# Altium footprint library mach_canh_bao_lu_2.PcbLib: 41 footprints (part 2 of 3)
Each footprint in its own frame and in the unit in brackets; x right, y up, seen from the top. Pads: shape width x height; smd on the part's side, far side on the other; paste and mask are expansions set on the pad; w line width, h text height; cw(c..) or ccw(c..) is an arc to the next point about the centre after c.
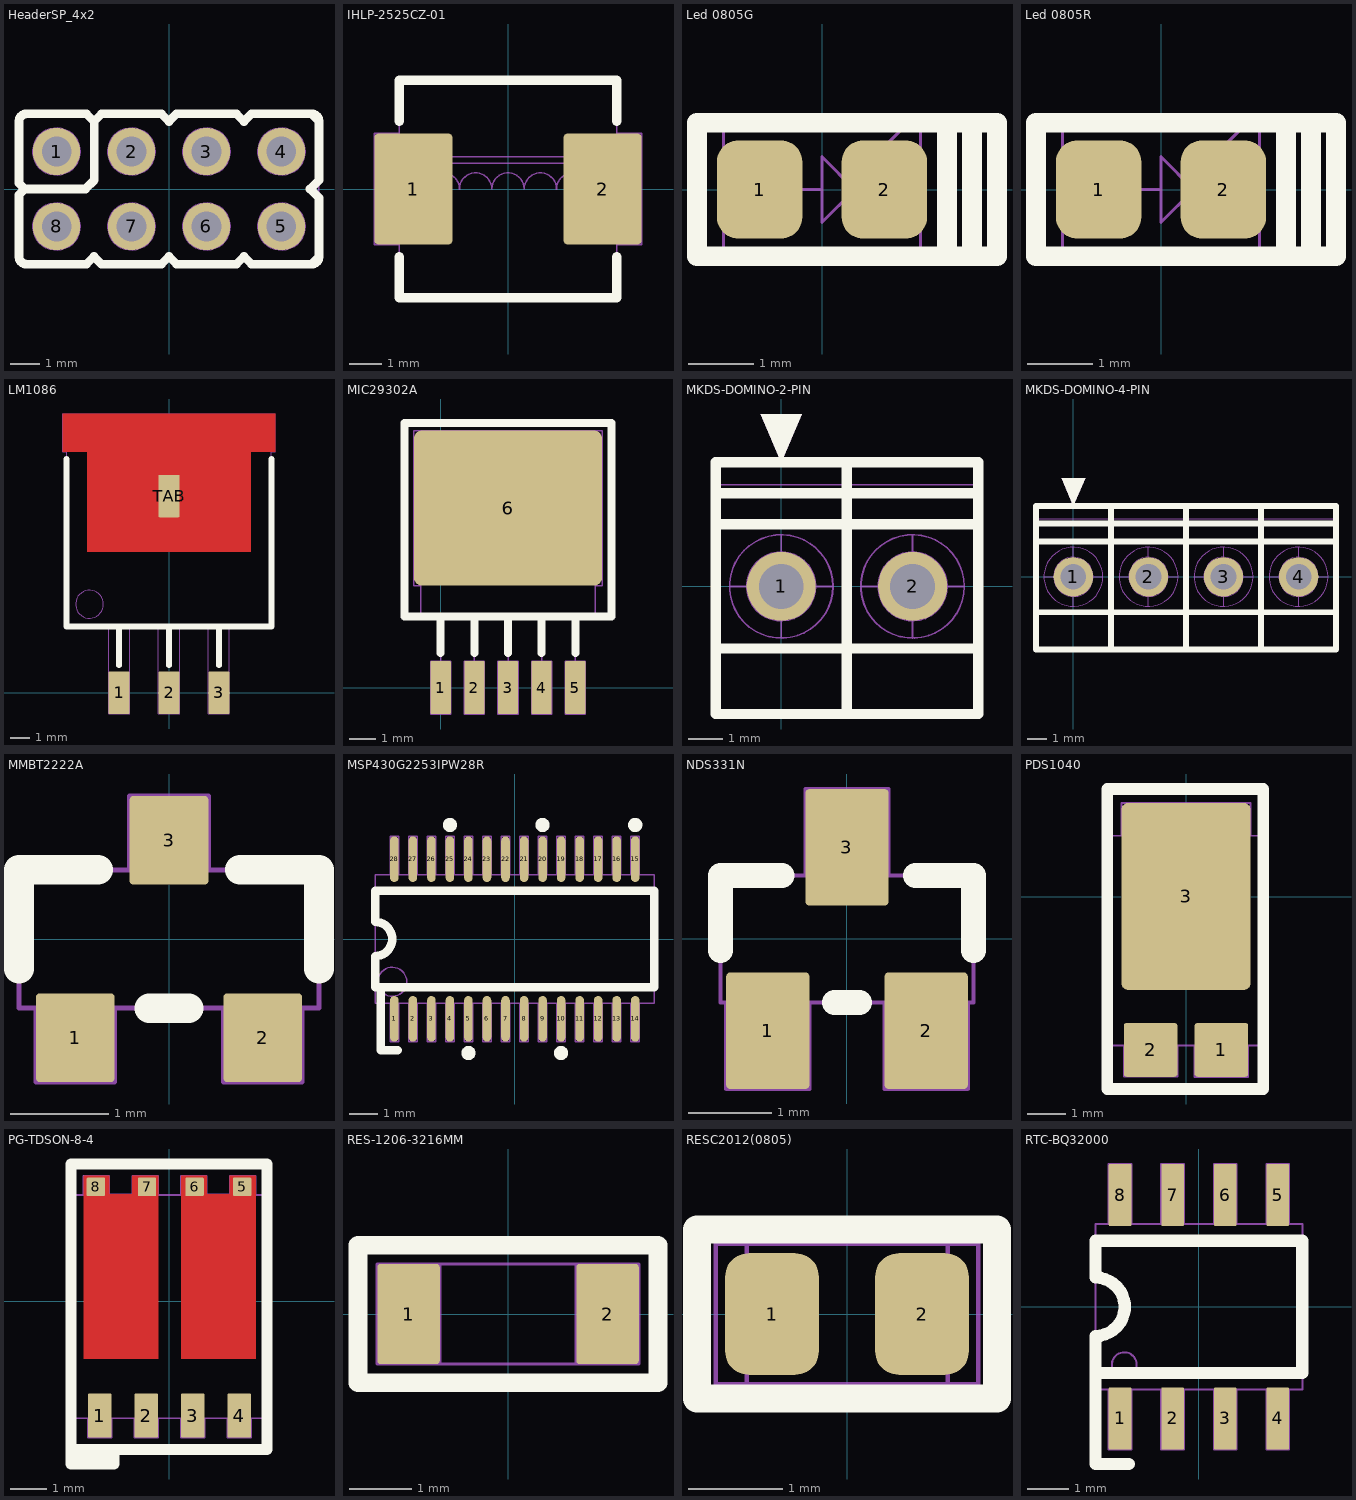
[diagram p1: the footprints below, top view; thin cyan lines are the x and y axes]

## HeaderSP_4x2 [mm] "Connector DIP FeMale, 2x4Pin_2.54mm"
height 5
pads (8):
  round 1.6 hole 1 mask+0.1: 1(-3.81,1.27) 2(-1.27,1.27) 3(1.27,1.27) 4(3.81,1.27) 5(3.81,-1.27) 6(1.27,-1.27) 7(-1.27,-1.27) 8(-3.81,-1.27)
Top Overlay:
  lines w0.3: -2.794,-2.55 -2.794,-2.54 ; -2.794,2.54 -2.54,2.286 -2.286,2.54 ; -2.794,2.55 -4.84,2.55 ccw(c-4.82,2.29) -5.08,2.27 -5.08,0.2 -4.88,0 ; -2.53,2.276 -2.53,0.3 -2.83,0 -4.88,0 ; -2.286,2.55 -0.254,2.55 ; 4.84,-2.55 ccw(c4.82,-2.29) 5.08,-2.27 ; 4.84,2.55 cw(c4.82,2.29) 5.08,2.27 5.08,0.3 4.78,0 5.08,-0.3 5.08,-2.2 ; 5.08,-2.296 5.08,-2.286 4.826,-2.54 4.826,-2.55 2.794,-2.55 2.794,-2.54 2.54,-2.286 2.286,-2.54 2.286,-2.55 0.254,-2.55 ; 5.08,2.286 4.826,2.54 4.826,2.55 2.794,2.55 2.54,2.296 ; -4.88,0 -5.08,-0.2 -5.08,-2.27 ccw(c-4.82,-2.29) -4.84,-2.55 -2.804,-2.55 -2.794,-2.54 ; -2.794,-2.54 -2.54,-2.286 -2.54,-2.296 -2.286,-2.55 -0.254,-2.55 ; -0.254,-2.55 -0.254,-2.54 ; -0.254,-2.55 -0.254,-2.54 ; -0.254,-2.54 0,-2.286 0.254,-2.54 ; -0.254,2.54 -0.254,2.55 ; -0.254,2.54 0,2.286 ; -0.254,2.54 0,2.286 ; -0.254,2.54 -0.254,2.55 ; 0,2.286 0,2.296 0.254,2.55 2.286,2.55 2.286,2.54 2.54,2.286 ; 0.254,-2.55 0.254,-2.54 ; 0.254,-2.55 0.254,-2.54 ; 2.54,2.286 2.54,2.296 ; 2.54,2.286 2.54,2.296
Mechanical 1:
  circle w0.05: c3.81,-1.27 r0.8
  circle w0.05: c3.81,1.27 r0.8
  circle w0.05: c1.27,-1.27 r0.8
  circle w0.05: c1.27,1.27 r0.8
  circle w0.05: c-1.27,-1.27 r0.8
  circle w0.05: c-1.27,1.27 r0.8
  circle w0.05: c-3.81,1.27 r0.8
  circle w0.05: c-1.27,1.27 r0.8
  circle w0.05: c-1.27,-1.27 r0.8
  circle w0.05: c-3.81,-1.27 r0.8
  lines w0.05: -2.794,-2.55 -2.794,-2.54 ; -2.794,2.54 -2.54,2.286 ; -2.794,2.55 -4.84,2.55 ccw(c-4.82,2.29) -5.08,2.27 -5.08,-2.27 ccw(c-4.82,-2.29) -4.84,-2.55 -2.804,-2.55 -2.794,-2.54 ; 0.254,2.54 0,2.286 ; 0.254,2.55 2.286,2.55 2.286,2.54 2.54,2.286 2.794,2.54 ; 2.794,2.55 4.826,2.55 4.826,2.54 ; 4.826,-2.54 4.826,-2.55 2.794,-2.55 2.54,-2.296 2.54,-2.286 2.286,-2.54 2.286,-2.55 0.254,-2.55 0,-2.296 0,-2.286 ; 4.84,-2.55 ccw(c4.82,-2.29) 5.08,-2.27 5.08,2.27 ccw(c4.82,2.29) 4.84,2.55 ; 5.08,-2.296 5.08,-2.286 ; -2.794,-2.54 -2.54,-2.286 ; -2.54,-2.296 -2.54,-2.286 ; -2.54,-2.296 -2.286,-2.55 ; -2.54,-2.296 -2.286,-2.55 ; -2.54,-2.296 -2.54,-2.286 ; -2.54,2.286 -2.286,2.54 -2.54,2.286 ; -2.286,-2.55 -0.254,-2.55 ; -2.286,-2.55 -0.254,-2.55 ; -0.254,-2.55 -0.254,-2.54 ; -0.254,-2.55 -0.254,-2.54 ; -0.254,-2.54 0,-2.286 ; -0.254,-2.54 0,-2.286 ; -0.254,2.54 0,2.286 ; -0.254,2.54 -0.254,2.55 ; -0.254,2.54 -0.254,2.55 ; -0.254,2.54 0,2.286 ; -0.254,2.55 -2.286,2.55 -0.254,2.55
  text "5" at 3.57,-1.75 h1
  text "4" at 3.47,0.8 h1
  text "8" at -4.08,-1.75 h1
  text "1" at -3.98,0.87 h1
  text ".Designator" at 0,0 h0.4
3D body "12538.stp": height 8.8, standoff -3, extent -5.08,-2.5 5.08,2.5

## IHLP-2525CZ-01 [mil] "Low-Profile, High-Current IHLP® Inductor"
height 118.11
pads (2):
  rrect10% 95x135 smd mask+3.94: 1(-115,0) 2(115,0)
Top Overlay:
  lines w11.81: -132.36,-82.68 -132.36,-132.36 132.36,-132.36 132.36,-82.68 ; -132.36,82.68 -132.36,132.36 132.36,132.36 132.36,82.68
Mechanical 1:
  lines w1.97: -132.36,-118.97 -132.36,118.75 ; -132.36,116 cw(c-117.13,117.01) -118.88,132.17 ; -132.17,-118.88 ccw(c-117.01,-117.13) -116,-132.36 ; -118.75,132.36 116,132.36 cw(c117.01,117.13) 132.17,118.88 ; -115.97,-132.36 118.97,-132.36 ; -98.43,0 cw(c-78.74,0) -59.05,0 cw(c-39.37,0) -19.69,0 cw(c0,0) 19.69,0 cw(c39.37,0) 59.06,0 cw(c78.74,0) 98.43,0 ; -98.43,31.5 98.43,31.5 ; -98.43,39.37 98.43,39.37 ; 118.88,-132.17 ccw(c117.13,-117.01) 132.36,-116 ; 132.36,-115.97 132.36,118.88 ; 132.68,-67.5 162.5,-67.5 162.5,67.5 132.68,67.5 ; -162.5,-67.5 -132.86,-67.5 ; -162.5,-67.5 -162.5,67.5 ; -162.5,-67.5 -162.5,67.5 ; -162.5,-67.5 -132.86,-67.5 ; -162.5,67.5 -132.86,67.5 ; -162.5,67.5 -132.86,67.5 ; -132.86,-67.5 -132.86,67.5
  text ".Designator" at 0,0 h15.75
3D body "User Library-IHLP-2525CZ.step": height 125.98, standoff 7.87, extent -135.04,-127.36 135.04,127.37

## Led 0805G [mm] "Chip LED; Green; Body 2.0 x 1.3 mm (LxW typ)"
height 1.1
pads (2):
  rrect50% 1.3x1.5 smd: 1(-0.95,0) 2(0.95,0)
Top Overlay:
  lines w0.3: 1.905,-1.016 1.905,1.016 ; 2.286,-1.016 2.286,1.016 ; -1.905,-1.016 -1.905,1.016 2.667,1.016 2.667,-1.016 -1.905,-1.016
Mechanical 1:
  lines w0.05: -1.5,-1 -1.5,1.032 ; -0.5,0 0,0 ; 0.5,-0.5 0.5,0.5 ; 0.6,0.5 0.8,0.7 0.8,0.5 1.2,0.9 ; 0.75,0.2 0.95,0.4 0.95,0.2 1.35,0.6 ; 1,0 0.5,0 ; 1.5,-1 1.5,1.032 ; 0.5,0 0,0.5 0,-0.5 0.5,0 ; -1.905,-1 -1.905,1.032 1.905,1.032 1.905,-1 -1.905,-1
  text ".Designator" at -1.5,1.032 h0.4
3D body "User Library-User Library-led_0805 GRE.step": height 1.1, standoff 0, extent -1.035,-0.625 0.985,0.625

## Led 0805R [mm] "Chip LED; RED ; Body 2.0 x 1.3 mm (LxW typ)"
height 1.1
pads (2):
  rrect50% 1.3x1.5 smd: 1(-0.95,0) 2(0.95,0)
Top Overlay:
  lines w0.3: 1.905,-1.016 1.905,1.016 ; 2.286,-1.016 2.286,1.016 ; -1.905,-1.016 2.667,-1.016 2.667,1.016 -1.905,1.016 -1.905,-1.016
Mechanical 1:
  lines w0.05: -1.5,-1 -1.5,1.032 ; -0.5,0 0,0 ; 0.5,-0.5 0.5,0.5 ; 0.6,0.5 0.8,0.7 0.8,0.5 1.2,0.9 ; 0.75,0.2 0.95,0.4 0.95,0.2 1.35,0.6 ; 1,0 0.5,0 ; 1.5,-1 1.5,1.032 ; 0.5,0 0,0.5 0,-0.5 0.5,0 ; -1.905,-1 -1.905,1.032 1.905,1.032 1.905,-1 -1.905,-1
  text ".Designator" at -1.5,1.032 h0.4
3D body "User Library-User Library-led_0805 R.step": height 1.1, standoff 0, extent -1.01,-0.625 1.01,0.625

## LM1086 [mm] "TO-263 1.5A Low Dropout Positive Regulators"
height 4.64
pads (4):
  rrect10% 1.07x2.16 smd mask+0.1: 1(-2.54,0) 2(0,0) 3(2.54,0)
  rrect10% 1.07x2.16 smd mask+0: TAB(0,10)
Top Layer:
  region: -5.4,14.17 5.4,14.17 5.4,12.26 4.165,12.26 4.165,7.18 -4.165,7.18 -4.165,12.26 -5.4,12.26
Top Overlay:
  lines w0.3: -5.205,11.875 -5.205,3.37 5.205,3.37 5.205,11.875 ; -2.54,1.4 -2.54,3.37 ; 0,1.4 0,3.37 ; 2.54,1.4 2.54,3.37
Top Paste:
  region: -5.4,14.17 5.4,14.17 5.4,12.26 4.165,12.26 4.165,7.18 -4.165,7.18 -4.165,12.26 -5.4,12.26
Mechanical 1:
  circle w0.05: c-4.04,4.5 r0.707
  lines w0.05: -5.19,12.26 -5.4,12.26 -5.4,14.17 5.4,14.17 5.4,12.26 5.205,12.26 ; -5.205,3.37 -5.205,13.53 5.205,13.53 5.205,3.37 -5.205,3.37 ; -3.075,-1.08 -2.005,-1.08 -2.005,3.37 -3.075,3.37 -3.075,-1.08 ; -0.535,-1.08 0.535,-1.08 0.535,3.37 -0.535,3.37 -0.535,-1.08 ; 2.005,-1.08 3.075,-1.08 3.075,3.37 2.005,3.37 2.005,-1.08
  text "OUT" at -1.5,9.7 h1
  text "IN" at 3,3.8 h1
  text "OUT" at 0.5,3.8 h1
  text "GND" at -2.1,3.8 h1
  text ".Designator" at -0.3,8.1 h0.4
3D body "SW3dPS-TO263-3S.STEP": height 4.78, standoff -0.02, extent -5,-1.152 5,14.518

## MIC29302A [mm] "MIC29302AWD TO-252-D"
height 2.387
pads (6):
  rrect10% 0.76x2 smd mask+0.1: 1(0,0) 2(1.27,0) 3(2.54,0) 4(3.81,0) 5(5.08,0)
  rrect10% 7.1x5.85 smd mask+0.1: 6(2.54,6.775)
Top Overlay:
  lines w0.3: 0,1.3 0,2.6 ; 1.27,1.3 1.27,2.6 ; 2.54,1.3 2.54,2.6 ; 3.81,1.3 3.81,2.6 ; 5.08,1.3 5.08,2.6 ; -1.36,2.687 6.44,2.687 6.44,9.987 -1.36,9.987 -1.36,2.687
Mechanical 1:
  lines w0.05: -0.762,3.85 -1.01,3.85 -1.01,9.7 6.09,9.7 6.09,3.85 5.842,3.85 ; 0,1 0,2.688 ; 1.27,1 1.27,2.688 ; 2.54,1 2.54,2.688 ; 3.81,1 3.81,2.688 ; 5.08,1 5.08,2.688 ; -0.762,2.688 5.842,2.688 5.842,8.887 -0.762,8.887 -0.762,2.688 ; -0.38,-1 0.38,-1 0.38,1 -0.38,1 -0.38,-1 ; 0.89,-1 0.89,1 1.65,1 1.65,-1 0.89,-1 ; 2.16,-1 2.16,1 2.92,1 2.92,-1 2.16,-1 ; 3.43,-1 3.43,1 4.19,1 4.19,-1 3.43,-1 ; 4.7,-1 4.7,1 5.46,1 5.46,-1 4.7,-1
  text "EN" at 0.2,-0.4 h1
  text "TAB" at 1.9,6.2 h1
  text "IN" at 1.5,-0.4 h1
  text "GND" at 2.7,-0.5 h1
  text "OUT" at 4,-0.5 h1
  text "ADJ" at 5.2,-0.5 h1
  text ".Designator" at 2.4,5.1 h0.4
3D body "User Library-DPAK-5-1.step": height 2.4, standoff -0.01, extent -0.683,-1.087 6.017,9.779

## MKDS-DOMINO-2-PIN [mm] "DOMINO 2 PIN, PIN TO PIN 3.81MM"
height 8.5
pads (2):
  round 2 hole 1.3 mask+0.1: 1(0,0) 2(3.81,0)
Top Overlay:
  region: 0,3.6 0.6,5 -0.6,5
  lines w0.3: -1.9,-1.8 5.715,-1.8 ; -1.9,1.8 5.715,1.8 ; -1.9,2.7 5.715,2.7 ; 1.905,-3.7 1.905,3.6 ; -1.9,-3.7 -1.9,3.6 5.715,3.6 5.715,-3.7 -1.9,-3.7
Mechanical 1:
  circle w0.05: c3.81,0 r1.5
  circle w0.05: c0,0 r1.5
  circle w0.05: c3.81,0 r1
  circle w0.05: c0,0 r1
  region: 0,3.6 0.6,5 -0.6,5
  lines w0.05: -1.9,-1.8 5.715,-1.8 ; -1.9,1.8 5.715,1.8 ; -1.9,2.95 5.715,2.95 ; -1.5,0 -1,0 ; 0,-1.5 0,-1 ; 0,1 0,1.5 ; 1,0 1.5,0 ; 1.905,-3.7 1.905,3.6 ; 2.31,0 2.81,0 ; 3.81,-1.5 3.81,-1 ; 3.81,1 3.81,1.5 ; 4.81,0 5.31,0 ; -1.9,-3.7 -1.9,3.6 5.715,3.6 5.715,-3.7 -1.9,-3.7
  text "2" at 3.7,-0.4 h1
  text "1" at -0.085,-0.4 h1
  text ".Designator" at 1.905,0 h0.4
3D body "14005.stp": height 8.5, standoff -3.5, extent -1.905,-3.7 5.715,3.6

## MKDS-DOMINO-4-PIN [mm] "DOMINO 4 PIN, PIN TO PIN 3.81MM"
height 8.5
pads (4):
  round 2 hole 1.3 mask+0.1: 1(0,0) 2(3.81,0) 3(7.62,0) 4(11.43,0)
Top Overlay:
  region: 0,3.6 0.6,5 -0.6,5
  lines w0.3: -1.9,-1.8 13.33,-1.8 ; -1.9,1.8 13.33,1.8 ; -1.9,2.7 13.33,2.7 ; 1.905,-3.7 1.905,3.6 ; 5.715,-3.7 5.715,3.6 ; 9.525,-3.7 9.525,3.6 ; -1.9,-3.7 13.33,-3.7 13.33,3.6 -1.9,3.6 -1.9,-3.7
Mechanical 1:
  circle w0.05: c0,0 r1
  circle w0.05: c3.81,0 r1
  circle w0.05: c7.62,0 r1
  circle w0.05: c11.43,0 r1
  circle w0.05: c0,0 r1.5
  circle w0.05: c3.81,0 r1.5
  circle w0.05: c7.62,0 r1.5
  circle w0.05: c11.43,0 r1.5
  region: 0,3.6 0.6,5 -0.6,5
  lines w0.05: -1.9,-1.8 13.33,-1.8 ; -1.9,1.8 13.33,1.8 ; -1.9,2.95 13.33,2.95 ; -1.5,0 -1,0 ; 0,-1.5 0,-1 ; 0,1 0,1.5 ; 1,0 1.5,0 ; 1.905,-3.7 1.905,3.6 ; 2.31,0 2.81,0 ; 3.81,-1.5 3.81,-1 ; 3.81,1 3.81,1.5 ; 4.81,0 5.31,0 ; 5.715,-3.7 5.715,3.6 ; 6.12,0 6.62,0 ; 7.62,-1.5 7.62,-1 ; 7.62,1 7.62,1.5 ; 8.62,0 9.12,0 ; 9.525,-3.7 9.525,3.6 ; 9.93,0 10.43,0 ; 11.43,-1.5 11.43,-1 ; 11.43,1 11.43,1.5 ; 12.43,0 12.93,0 ; -1.9,-3.7 13.33,-3.7 13.33,3.6 -1.9,3.6 -1.9,-3.7
  text "4" at 11.015,-0.5 h1
  text "1" at -0.085,-0.4 h1
  text ".Designator" at 0,0 h0.4
3D body "14007.stp": height 8.5, standoff -3.5, extent -1.92,-3.7 13.32,3.6

## MMBT2222A [mm] "SOT-23"
height 1.11
pads (3):
  rrect10% 0.8x0.9 smd mask+0.1: 1(-0.95,-1) 2(0.95,-1) 3(0,1)
Top Overlay:
  lines w0.3: -1.52,-0.3 -1.52,0.7 -0.72,0.7 ; -0.2,-0.7 0.2,-0.7 ; 0.72,0.7 1.52,0.7 1.52,-0.3
Mechanical 1:
  lines w0.05: -1.35,-0.7 -0.55,-0.7 ; -1.35,-0.7 -1.35,-1.45 -0.55,-1.45 -0.55,-0.7 ; -1.35,-0.7 -1.52,-0.7 -1.52,0.7 -0.4,0.7 ; -0.55,-0.7 0.55,-0.7 ; -0.4,0.7 0.4,0.7 ; -0.4,0.7 -0.4,1.45 0.4,1.45 0.4,0.7 ; 0.4,0.7 1.52,0.7 1.52,-0.7 1.35,-0.7 ; 0.55,-0.7 1.35,-0.7 ; 0.55,-0.7 0.55,-1.45 1.35,-1.45 1.35,-0.7
  text "B" at -1.05,-1.3 h1
  text "E" at 0.85,-1.3 h1
  text "C" at -0.15,0.9 h1
  text ".Designator" at 0,0 h0.4
3D body "SW3DPS-SOT-23-DEFAULT.STEP": height 1.06, standoff -0.04, extent -1.475,-1.306 1.525,1.194

## MSP430G2253IPW28R [mm] "TSSOP PW 28  PIN TO PIN 0.65"
height 1.2
pads (28):
  oval 0.3x1.6 smd mask+0.1: 1(-4.225,-2.8) 2(-3.575,-2.8) 3(-2.925,-2.8) 4(-2.275,-2.8) 5(-1.625,-2.8) 6(-0.975,-2.8) 7(-0.325,-2.8) 8(0.325,-2.8) 9(0.975,-2.8) 10(1.625,-2.8) 11(2.275,-2.8) 12(2.925,-2.8) 13(3.575,-2.8) 14(4.225,-2.8) 15(4.225,2.8) 16(3.575,2.8) 17(2.925,2.8) 18(2.275,2.8) 19(1.625,2.8) 20(0.975,2.8) 21(0.325,2.8) 22(-0.325,2.8) 23(-0.975,2.8) 24(-1.625,2.8) 25(-2.275,2.8) 26(-2.925,2.8) 27(-3.575,2.8) 28(-4.225,2.8)
Top Overlay:
  circle w0.3: c-2.275,4 r0.1
  circle w0.3: c0.975,4 r0.1
  circle w0.3: c4.225,4 r0.1
  circle w0.3: c1.625,-4 r0.1
  circle w0.3: c-1.625,-4 r0.1
  lines w0.3: -4.7,-1.7 -4.7,-3.9 -4.1,-3.9 ; -4.9,-1.7 4.9,-1.7 4.9,1.7 -4.9,1.7 -4.9,0.6 cw(c-4.9,0) -4.9,-0.6 -4.9,-1.7
Mechanical 1:
  circle w0.05: c-4.3,-1.5 r0.51
  lines w0.05: -4.9,-0.6 ccw(c-4.9,0) -4.9,0.6 ; -4.9,-2.25 4.9,-2.25 4.9,2.25 -4.9,2.25 -4.9,-2.25 ; -4.375,-3.6 -4.075,-3.6 -4.075,-2.25 -4.375,-2.25 -4.375,-3.6 ; -4.375,2.25 -4.375,3.6 -4.075,3.6 -4.075,2.25 -4.375,2.25 ; -3.725,-3.6 -3.425,-3.6 -3.425,-2.25 -3.725,-2.25 -3.725,-3.6 ; -3.725,2.25 -3.725,3.6 -3.425,3.6 -3.425,2.25 -3.725,2.25 ; -3.075,-3.6 -2.775,-3.6 -2.775,-2.25 -3.075,-2.25 -3.075,-3.6 ; -3.075,2.25 -3.075,3.6 -2.775,3.6 -2.775,2.25 -3.075,2.25 ; -2.425,-3.6 -2.125,-3.6 -2.125,-2.25 -2.425,-2.25 -2.425,-3.6 ; -2.425,2.25 -2.425,3.6 -2.125,3.6 -2.125,2.25 -2.425,2.25 ; -1.775,-3.6 -1.475,-3.6 -1.475,-2.25 -1.775,-2.25 -1.775,-3.6 ; -1.775,2.25 -1.775,3.6 -1.475,3.6 -1.475,2.25 -1.775,2.25 ; -1.125,-3.6 -0.825,-3.6 -0.825,-2.25 -1.125,-2.25 -1.125,-3.6 ; -1.125,2.25 -1.125,3.6 -0.825,3.6 -0.825,2.25 -1.125,2.25 ; -0.475,-3.6 -0.175,-3.6 -0.175,-2.25 -0.475,-2.25 -0.475,-3.6 ; -0.475,2.25 -0.475,3.6 -0.175,3.6 -0.175,2.25 -0.475,2.25 ; 0.175,-3.6 0.475,-3.6 0.475,-2.25 0.175,-2.25 0.175,-3.6 ; 0.175,2.25 0.175,3.6 0.475,3.6 0.475,2.25 0.175,2.25 ; 0.825,-3.6 1.125,-3.6 1.125,-2.25 0.825,-2.25 0.825,-3.6 ; 0.825,2.25 0.825,3.6 1.125,3.6 1.125,2.25 0.825,2.25 ; 1.475,-3.6 1.775,-3.6 1.775,-2.25 1.475,-2.25 1.475,-3.6 ; 1.475,2.25 1.475,3.6 1.775,3.6 1.775,2.25 1.475,2.25 ; 2.125,-3.6 2.425,-3.6 2.425,-2.25 2.125,-2.25 2.125,-3.6 ; 2.125,2.25 2.125,3.6 2.425,3.6 2.425,2.25 2.125,2.25 ; 2.775,-3.6 3.075,-3.6 3.075,-2.25 2.775,-2.25 2.775,-3.6 ; 2.775,2.25 2.775,3.6 3.075,3.6 3.075,2.25 2.775,2.25 ; 3.425,-3.6 3.725,-3.6 3.725,-2.25 3.425,-2.25 3.425,-3.6 ; 3.425,2.25 3.425,3.6 3.725,3.6 3.725,2.25 3.425,2.25 ; 4.075,-3.6 4.375,-3.6 4.375,-2.25 4.075,-2.25 4.075,-3.6 ; 4.075,2.25 4.075,3.6 4.375,3.6 4.375,2.25 4.075,2.25
  text ".Designator" at 0,0 h0.4
  text "28" at -4.5,0.9 h1
  text "15" at 3,0.9 h1
  text "14" at 3.1,-1.9 h1
3D body "User Library-PWP (R-PDSO-G28).STEP": height 1.2, standoff 0, extent -4.9,-3.31 4.9,3.31

## NDS331N [mm] "SuperSOT-3 N channel Mode FET"
height 1.12
pads (3):
  rrect10% 1x1.4 smd mask+0.1: 1(-0.95,-1.1) 2(0.95,-1.1) 3(0,1.1)
Top Overlay:
  lines w0.3: -1.52,-0.14 -1.52,0.76 -0.78,0.76 ; -0.15,-0.76 0.15,-0.76 ; 0.82,0.76 1.52,0.76 1.52,-0.14
Mechanical 1:
  lines w0.05: -1.52,-0.76 -1.52,0.76 1.52,0.76 1.52,-0.76 -1.52,-0.76 ; -1.45,-1.8 -1.45,-0.76 -0.45,-0.76 -0.45,-1.8 -1.45,-1.8 ; -0.5,0.76 0.5,0.76 0.5,1.8 -0.5,1.8 -0.5,0.76 ; 0.45,-1.8 1.45,-1.8 1.45,-0.76 0.45,-0.76 0.45,-1.8
  text "D" at -0.1,1 h1
  text "S" at 0.8,-1.4 h1
  text "G" at -1.1,-1.4 h1
  text ".Designator" at 0,0 h0.4
3D body "SW3DPS-SOT-23-DEFAULT.STEP": height 1.06, standoff -0.04, extent -1.5,-1.291 1.5,1.209

## PDS1040 [mm] "DIOD 10A SCHOTTKY BARRIER RECTIFIER"
height 1.15
pads (3):
  rrect10% 1.39x1.4 smd: 1(0.92,-3.982) 2(-0.92,-3.982)
  rrect10% 3.36x4.86 smd mask+0.1: 3(0,0.006)
Top Overlay:
  lines w0.3: -2.043,-5 2.007,-5 2.007,2.8 -2.043,2.8 -2.043,-5
Mechanical 1:
  lines w0.05: -1.68,1.585 -1.68,2.436 1.68,2.436 1.68,1.585 ; -1.615,-3.865 -1.615,-4.682 -0.225,-4.682 -0.225,-3.865 ; 0.225,-3.865 0.225,-4.688 1.615,-4.688 1.615,-3.865 ; -2.025,-3.865 -2.025,1.585 2.025,1.585 2.025,-3.865 -2.025,-3.865
  text "A1" at 0.6,-3.8 h1
  text "A2" at -1.9,-3.7 h1
  text "K" at -0.4,0.4 h1
  text ".Designator" at -0.1,0 h0.4
3D body "User Library-PDS 1040.step": height 1.1, standoff 0, extent -2,-4.214 2,2.286

## PG-TDSON-8-4 [mm] "Dual N-Channel MOSFET"
height 1
pads (8):
  rrect10% 0.65x1.2 smd mask+0.1: 1(-1.89,-3.125) 2(-0.62,-3.125) 3(0.65,-3.125) 4(1.92,-3.125)
  rrect10% 0.5x0.5 smd mask+0.1: 5(2,3.125) 6(0.7,3.125) 7(-0.6,3.125) 8(-2,3.125)
Top Layer:
  region: 0.33,-1.575 0.33,3.425 1.03,3.425 1.03,2.925 1.665,2.925 1.665,3.425 2.365,3.425 2.365,-1.575
  region: -1.635,2.925 -1.635,3.425 -2.335,3.425 -2.335,-1.575 -0.3,-1.575 -0.3,3.425 -1,3.425 -1,2.925
Top Overlay:
  lines w0.3: -2.675,-4.45 -2.675,3.75 2.675,3.75 2.675,-4.05 -2.675,-4.05 -2.675,-4.25 -1.5,-4.25 -1.5,-4.05 -1.5,-4.45 -2.675,-4.45
Mechanical 1:
  lines w0.05: -2.335,2.9 -0.3,2.9 ; -2.335,2.9 -2.335,3.425 ; -2.335,2.9 -2.335,3.425 ; -2.335,3.425 -1.635,3.425 ; -2.335,3.425 -1.635,3.425 ; -2.335,3.425 -1.635,3.425 ; -1.635,2.925 -1.635,3.425 ; -1.635,2.925 -1,2.925 ; -1.635,2.925 -1,2.925 ; -1.635,2.925 -1.635,3.425 ; -1,2.925 -1,3.425 ; -1,2.925 -1,3.425 ; -1,3.425 -0.3,3.425 ; -1,3.425 -0.3,3.425 ; -0.3,2.9 -0.3,3.425 ; -0.3,2.9 -0.3,3.425 ; 0.33,2.9 2.365,2.9 ; 0.33,2.9 0.33,3.425 ; 0.33,2.9 0.33,3.425 ; 0.33,2.9 2.365,2.9 ; 0.33,3.425 1.03,3.425 ; 0.33,3.425 1.03,3.425 ; 1.03,2.925 1.665,2.925 ; 1.03,2.925 1.03,3.425 ; 1.03,2.925 1.03,3.425 ; 1.03,2.925 1.665,2.925 ; 1.665,2.925 1.665,3.425 ; 1.665,2.925 1.665,3.425 ; 1.665,3.425 2.365,3.425 ; 1.665,3.425 2.365,3.425 ; 2.365,2.9 2.365,3.425 ; 2.365,2.9 2.365,3.425 ; -2.675,-3.2 2.675,-3.2 2.675,2.9 -2.675,2.9 -2.675,-3.2 ; -2.215,-3.725 -1.565,-3.725 -1.565,-3.2 -2.215,-3.2 -2.215,-3.725 ; -0.945,-3.725 -0.945,-3.2 -0.295,-3.2 -0.295,-3.725 -0.945,-3.725 ; 0.325,-3.725 0.325,-3.2 0.975,-3.2 0.975,-3.725 0.325,-3.725 ; 1.595,-3.725 1.595,-3.2 2.245,-3.2 2.245,-3.725 1.595,-3.725
  text "D2" at 1.7,1.7 h1
  text "D1" at -1.1,1.8 h1
  text "G2" at 2.2,-3 h1
  text "S2" at 0.95,-3 h1
  text "G1" at -0.3,-3 h1
  text "S1" at -1.6,-3.05 h1
  text ".Designator" at 0,0 h0.4
3D body "User Library-TDSON-8-1.step": height 1, standoff 0, extent -2.548,-3.102 2.802,3.048

## RES-1206-3216MM [mm] "32X16MM"
height 1
pads (2):
  rrect10% 1x1.6 smd mask+0.1: 1(-1.592,0) 2(1.592,0)
Top Overlay:
  lines w0.3: -2.4,-1.1 -2.4,1.1 2.4,1.1 2.4,-1.1 -2.4,-1.1
Mechanical 1:
  lines w0.05: -2.092,-0.8 -1.092,-0.8 -1.092,0.8 -2.092,0.8 -2.092,-0.8 ; -1.6,0.8 1.592,0.8 1.592,-0.8 -1.592,-0.8 -1.592,0.8 -1.6,0.8 ; 1.092,-0.8 1.092,0.8 2.092,0.8 2.092,-0.8 1.092,-0.8
  text ".Designator" at 0,0 h0.4
3D body "User Library-RESC3216X06N.step": height 0.55, standoff 0, extent -1.727,-0.8 1.473,0.8

## RESC2012(0805) [mm] "Chip Resistor, Body 2.0x1.3mm, 1/8W 0805"
height 0.65
pads (2):
  rrect50% 1x1.3 smd: 1(-0.8,0) 2(0.8,0)
Top Overlay:
  lines w0.3: -1.6,-0.9 -1.6,0.9 1.6,0.9 1.6,-0.9 -1.6,-0.9
Mechanical 1:
  lines w0.05: -1.07,-0.74 -1.07,0.75 ; 1.075,-0.74 1.075,0.75 ; -1.4,-0.75 -1.4,0.75 1.4,0.75 1.4,-0.75 -1.4,-0.75
  text ".Designator" at 0,0 h0.4
3D body "Res 0805.STEP": height 0.6, standoff 0, extent -1,-0.625 1,0.625

## RTC-BQ32000 [mm] "8-SOIC"
height 1.75
pads (8):
  rrect10% 0.55x1.5 smd mask+0.1: 1(-1.905,-2.7) 2(-0.635,-2.7) 3(0.635,-2.7) 4(1.905,-2.7) 5(1.905,2.7) 6(0.635,2.7) 7(-0.635,2.7) 8(-1.905,2.7)
Top Overlay:
  lines w0.3: -1.7,-3.8 -2.5,-3.8 -2.5,-1.6 ; -2.5,-1.6 2.5,-1.6 2.5,1.6 -2.5,1.6 -2.5,0.707 cw(c-2.5,0) -2.5,-0.707 -2.5,-1.6
Mechanical 1:
  circle w0.05: c-1.805,-1.4 r0.3
  lines w0.05: -2.5,-0.78 ccw(c-2.5,0) -2.5,0.78 ; -2.18,-2 -2.18,-3.45 ; -1.63,-2.007 -1.63,-3.45 ; -0.91,-2.007 -0.91,-3.45 ; -0.91,2 -0.91,3.45 -0.36,3.45 -0.36,2 ; -0.36,-2 -0.36,-3.45 ; 0.36,-2 0.36,-3.45 ; 0.36,2.007 0.36,3.45 0.91,3.45 0.91,2 ; 0.91,-2 0.91,-3.45 ; 1.63,-2.007 1.63,-3.45 ; 1.63,2.007 1.63,3.45 2.18,3.45 2.18,2 ; 2.18,-2.007 2.18,-3.45 ; -2.18,-3.45 -1.63,-3.45 ; -2.18,-3.45 -1.63,-3.45 ; -2.18,-3.45 -1.63,-3.45 ; -2.18,-3.45 -1.63,-3.45 ; -2.18,2 -2.18,3.45 ; -2.18,2 -2.18,3.45 ; -2.18,2 -1.63,2 -1.63,3.45 ; -2.18,3.45 -1.63,3.45 ; -2.18,3.45 -1.63,3.45 ; -0.91,-3.45 -0.36,-3.45 ; -0.91,-3.45 -0.36,-3.45 ; 0.36,-3.45 0.91,-3.45 ; 0.36,-3.45 0.91,-3.45 ; 1.63,-3.45 2.18,-3.45 ; 1.63,-3.45 2.18,-3.45 ; -2.5,-2 -2.5,2 2.5,2 2.5,-2 -2.5,-2
  text ".Designator" at -0.1,0 h0.4
  text "4" at 1.4,-2 h1
  text "5" at 1.5,0.78 h1
  text "8" at -1.9,0.8 h1
3D body "SO-8.STEP": height 1.5, standoff 0, extent -2.45,-2.967 2.45,3.061